# Altium footprint library SOT23-6.PcbLib: 1 footprints
Each footprint in its own frame and in the unit in brackets; x right, y up, seen from the top. Pads: shape width x height; smd on the part's side, far side on the other; paste and mask are expansions set on the pad; w line width, h text height; cw(c..) or ccw(c..) is an arc to the next point about the centre after c.
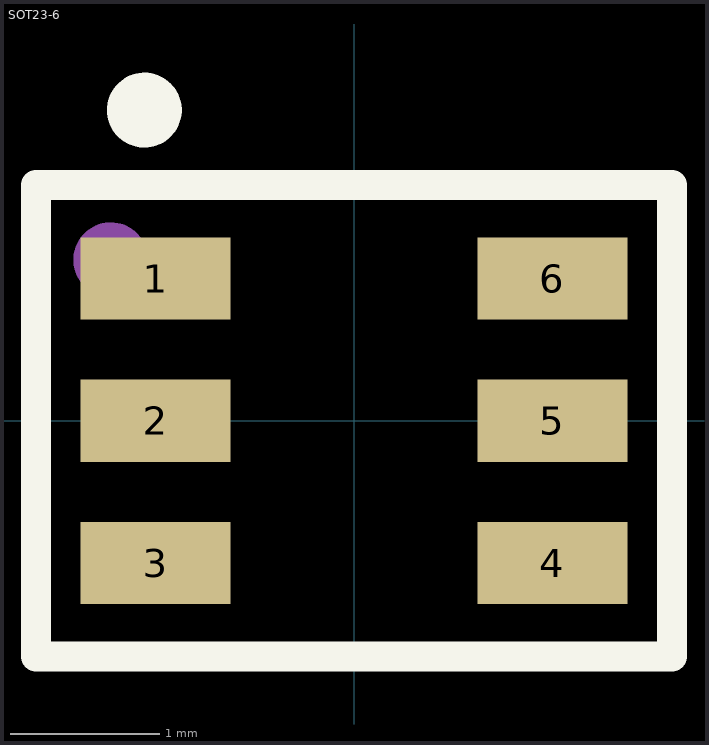
[diagram p0: the footprint, top view; thin cyan lines are the x and y axes]

## SOT23-6 [mm]
height 1
pads (6):
  rect 1x0.55 smd: 1(-1.325,0.95) 2(-1.325,0) 3(-1.325,-0.95) 4(1.325,-0.95) 5(1.325,0) 6(1.325,0.95)
Top Overlay:
  circle w0.25: c-1.4,2.075 r0.125
  lines w0.2: -2.125,-1.575 2.125,-1.575 2.125,1.575 -2.125,1.575 -2.125,-1.575
Top Assembly:
  circle w0.25: c-1.625,1.075 r0.125
  lines w0.1: -2.1,-1.55 -2.1,1.55 2.1,1.55 2.1,-1.55 -2.1,-1.55
  text "'.Designator'" at -0.925,-0.35 h0.7
3D body "SOT23-6.step": height 1, standoff 0, extent -1.425,-1.5 1.425,1.5